# Altium footprint library Jack-DC002 3.5_1.3mmm.PcbLib: 1 footprints
Each footprint in its own frame and in the unit in brackets; x right, y up, seen from the top. Pads: shape width x height; smd on the part's side, far side on the other; paste and mask are expansions set on the pad; w line width, h text height; cw(c..) or ccw(c..) is an arc to the next point about the centre after c.
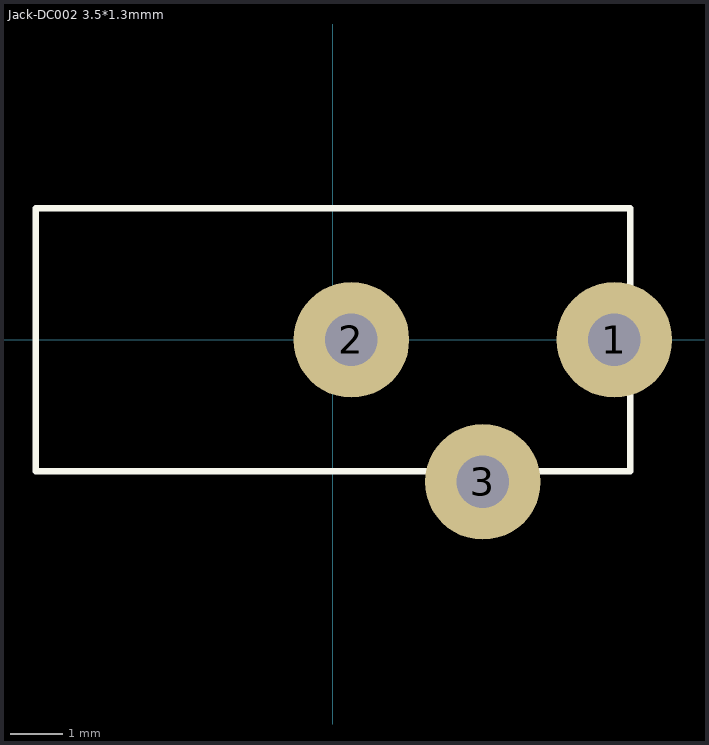
[diagram p0: the footprint, top view; thin cyan lines are the x and y axes]

## Jack-DC002 3.5*1.3mmm [mm] "Dc power jack fermale"
height 7.5
pads (3):
  round 2.2 hole 1: 1(5.35,0) 2(0.35,0) 3(2.85,-2.7)
Top Overlay:
  lines w0.127: -5.65,-2.5 5.65,-2.5 5.65,2.5 -5.65,2.5 -5.65,-2.5
3D body "jack_DC002.STEP": height 7, standoff -2.78, extent -4.85,-3 5.65,2.5